# EAGLE library part S6B-PH-K-S(LF)(SN) (library Headers)
CONN HEADER R/A 6POS 2MM Manufacturer's datasheet <http://www.jst-mfg.com/product/pdf/eng/ePH.pdf>
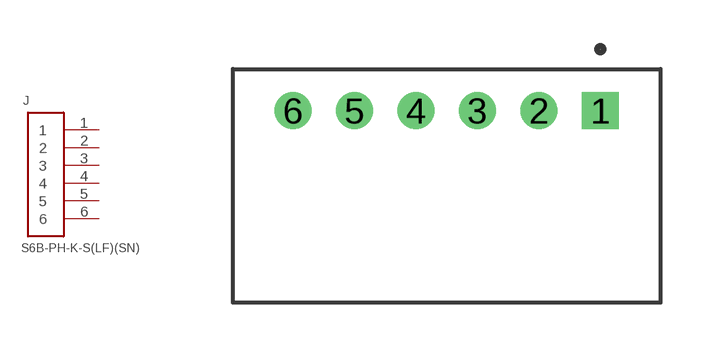
[diagram p46: symbol with the pads of S6B-PH-K-S(LF)(SN); footprint S6B-PH-K-S(LF)(SN)]

Designator prefix J

## S6B-PH-K-S(LF)(SN) (CREATED_BY: PCBLayout.com; DIGIKEY_PARTNO: 455-1723-ND; MANUFACTURER: JST Sales America Inc.; MPN: S6B-PH-K-S(LF)(SN))  [S6B-PH-K-S(LF)(SN)]
1  1  pas
2  2  pas
3  3  pas
4  4  pas
5  5  pas
6  6  pas

## Footprint S6B-PH-K-S(LF)(SN) (pad centres in mm)
drill 0.7 square: 1 5,0
drill 0.7: 2 3,0; 3 1,0; 4 -1,0; 5 -3,0; 6 -5,0